# Altium footprint library Nutz.PcbLib: 67 footprints (part 2 of 5)
Each footprint in its own frame and in the unit in brackets; x right, y up, seen from the top. Pads: shape width x height; smd on the part's side, far side on the other; paste and mask are expansions set on the pad; w line width, h text height; cw(c..) or ccw(c..) is an arc to the next point about the centre after c.
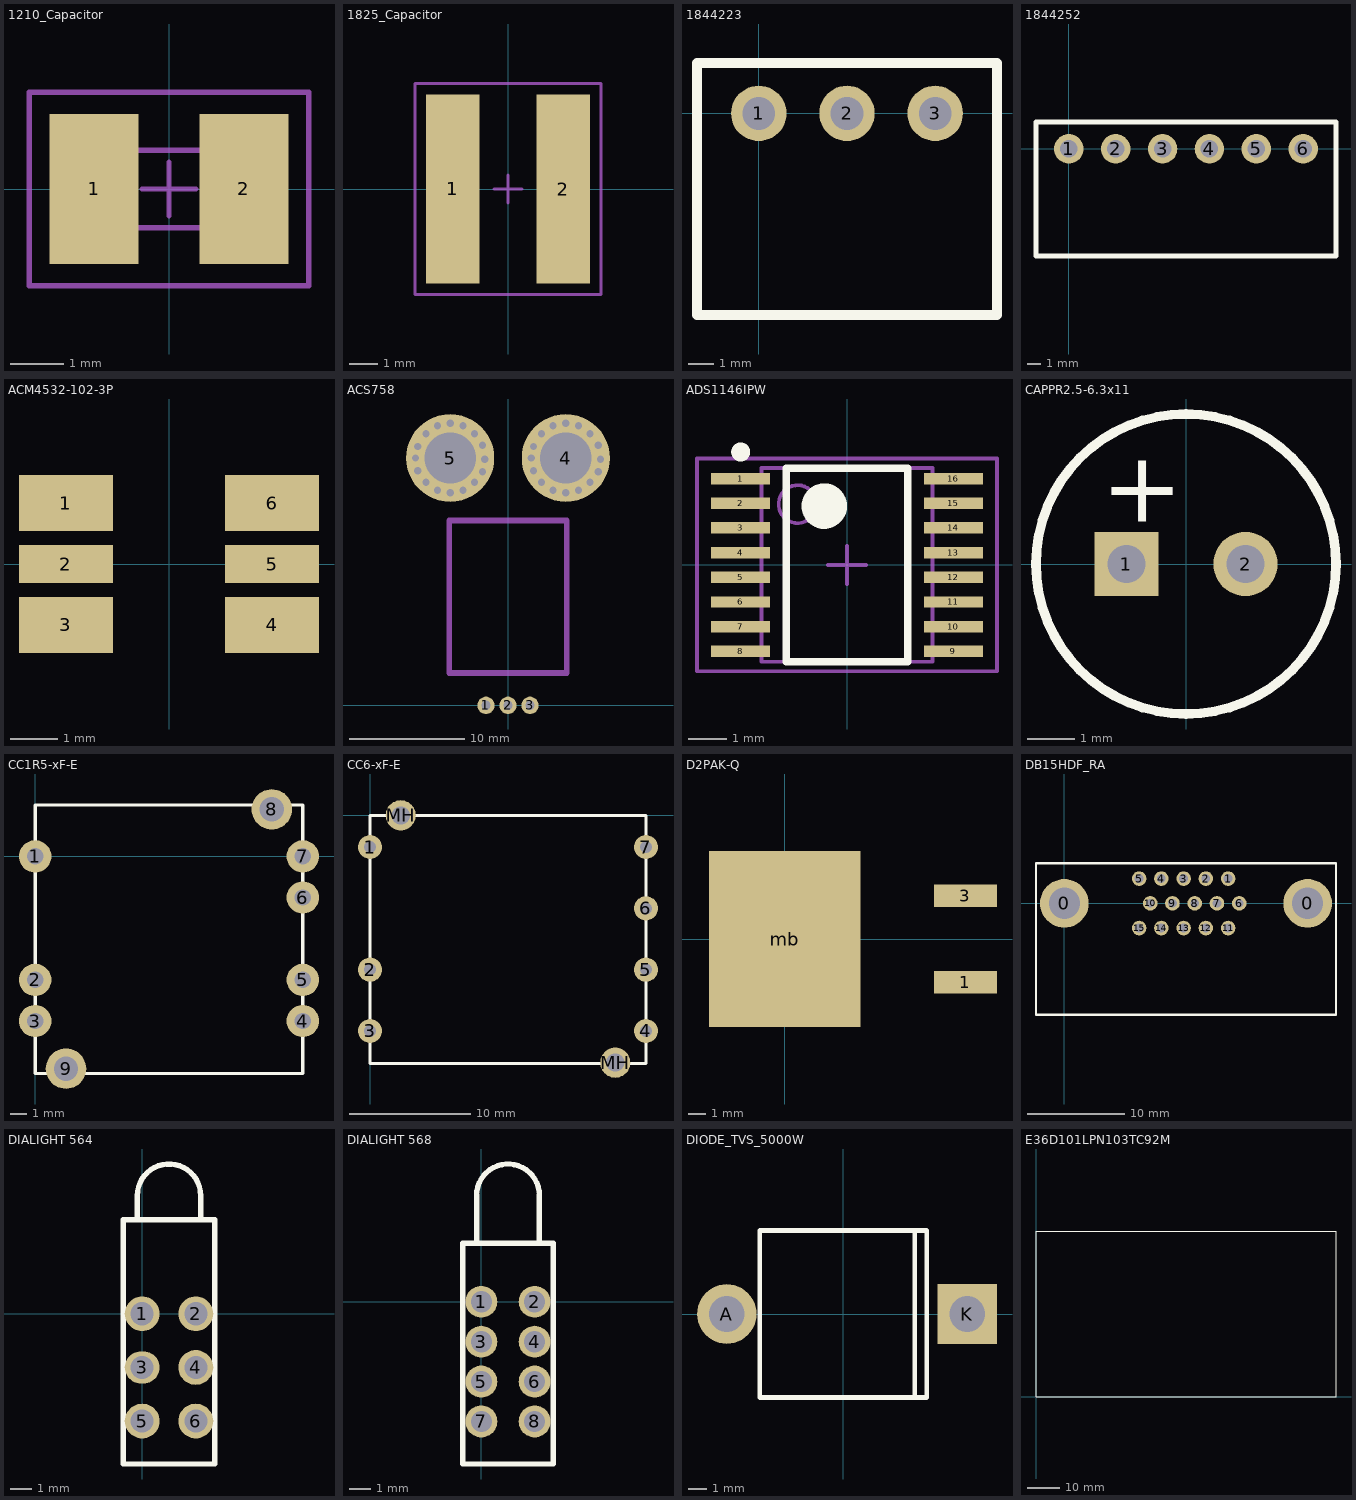
[diagram p1: the footprints below, top view; thin cyan lines are the x and y axes]

## 1210_Capacitor [mil] "1210 Capacitor"
height 43.31
pads (2):
  rect 65x110 smd: 1(-55,0) 2(55,0)
Mechanical 13:
  lines w3.94: -43.31,-28.54 -43.31,28.54 43.31,28.54 43.31,-28.54 -43.31,-28.54
Mechanical 15:
  lines w3.94: -19.68,0 19.69,0 ; 0,-19.68 0,19.69 ; -102.36,-70.87 -102.36,70.87 102.36,70.87 102.36,-70.87 -102.36,-70.87
3D body: height 36.4, standoff -1.39, extent -83.78,-54.39 81.57,51.9

## 1825_Capacitor [mil] "1825 Capacitor"
height 43.31
pads (2):
  rect 75x265 smd: 1(-77.5,0) 2(77.5,0)
Mechanical 15:
  lines w3.94: -19.68,0 19.69,0 ; 0,-19.68 0,19.69 ; -130,-147.5 -130,147.5 130,147.5 130,-147.5 -130,-147.5
3D body: height 49.21, standoff -0.39, extent -115.12,-132.37 114.88,132.63

## 1844223 [mm]
pads (3):
  round 2.2 hole 1.3: 1(0,0) 2(3.5,0) 3(7,0)
Top Overlay:
  lines w0.381: -2.45,-8 -2.45,2 9.45,2 9.45,-8 -2.45,-8

## 1844252 [mm]
pads (6):
  round 2.2 hole 1.3: 1(0,0) 2(3.5,0) 3(7,0) 4(10.5,0) 5(14,0) 6(17.5,0)
Top Overlay:
  lines w0.381: -2.45,-8 -2.45,2 19.95,2 19.95,-8 -2.45,-8
3D body: height 7.25, standoff -3.4, extent -2.437,-8.001 19.963,1.199

## ACM4532-102-3P [mm] "3 Line Common Mode Choke"
height 2.3
pads (6):
  rect 2x1.2 smd: 1(-2.2,1.3) 3(-2.2,-1.3) 4(2.2,-1.3) 6(2.2,1.3)
  rect 2x0.8 smd: 2(-2.2,0) 5(2.2,0)
3D body: height 2.3, standoff 0, extent -2.25,-1.6 2.25,1.6

## ACS758 [mm]
pads (5):
  round 1.5 hole 0.8: 1(-1.91,0) 2(0,0) 3(1.91,0)
  round 7.62 hole 4.445: 4(5,21.4) 5(-5,21.4)
via 8,21.3 diameter 1.27 hole 0.635
via 7.1,23.5 diameter 1.27 hole 0.635
via 2.9,23.5 diameter 1.27 hole 0.635
via 2.9,19.3 diameter 1.27 hole 0.635
via 7.1,19.3 diameter 1.27 hole 0.635
via 5,18.4 diameter 1.27 hole 0.635
via 2,21.4 diameter 1.27 hole 0.635
via 5,24.4 diameter 1.27 hole 0.635
via 3.9,24.2 diameter 1.27 hole 0.635
via 6.1,24.2 diameter 1.27 hole 0.635
via 7.8,22.5 diameter 1.27 hole 0.635
via 7.8,20.2 diameter 1.27 hole 0.635
via 6.1,18.6 diameter 1.27 hole 0.635
via 3.9,18.6 diameter 1.27 hole 0.635
via 2.2,20.3 diameter 1.27 hole 0.635
via 2.2,22.4 diameter 1.27 hole 0.635
via -7.8,22.4 diameter 1.27 hole 0.635
via -7.8,20.3 diameter 1.27 hole 0.635
via -6.1,18.6 diameter 1.27 hole 0.635
via -3.9,18.6 diameter 1.27 hole 0.635
via -2.2,20.2 diameter 1.27 hole 0.635
via -2.2,22.5 diameter 1.27 hole 0.635
via -3.9,24.2 diameter 1.27 hole 0.635
via -6.1,24.2 diameter 1.27 hole 0.635
via -5,24.4 diameter 1.27 hole 0.635
via -8,21.4 diameter 1.27 hole 0.635
via -5,18.4 diameter 1.27 hole 0.635
via -2.9,19.3 diameter 1.27 hole 0.635
via -7.1,19.3 diameter 1.27 hole 0.635
via -7.1,23.5 diameter 1.27 hole 0.635
via -2.9,23.5 diameter 1.27 hole 0.635
via -2,21.3 diameter 1.27 hole 0.635
Mechanical 13:
  lines w0.508: -5.08,2.794 5.08,2.794 5.08,16.002 -5.08,16.002 -5.08,2.794
3D body: height 7, standoff -3.51, extent -7,-0.5 7,22.322

## ADS1146IPW [mm] "TSOP, 16-Leads, Body 5.1x4.5mm (max), Pitch 0.65mm, IPC Medium Density"
height 1.2
pads (16):
  rect 1.55x0.3 smd: 1(-2.8,2.275) 2(-2.8,1.625) 3(-2.8,0.975) 4(-2.8,0.325) 5(-2.8,-0.325) 6(-2.8,-0.975) 7(-2.8,-1.625) 8(-2.8,-2.275) 9(2.8,-2.275) 10(2.8,-1.625) 11(2.8,-0.975) 12(2.8,-0.325) 13(2.8,0.325) 14(2.8,0.975) 15(2.8,1.625) 16(2.8,2.275)
Top Overlay:
  circle w0.25: c-2.8,2.975 r0.125
  circle w0.6: c-0.6,1.55 r0.3
  lines w0.2: -1.6,-2.55 -1.6,2.55 1.6,2.55 1.6,-2.55 -1.6,-2.55
Mechanical 13:
  circle w0.1: c-1.3,1.6 r0.5
  lines w0.1: -2.25,-2.55 -2.25,2.55 2.25,2.55 2.25,-2.55 -2.25,-2.55
Mechanical 15:
  lines w0.1: -0.5,0 0.5,0 ; 0,-0.5 0,0.5 ; -3.95,-2.8 -3.95,2.8 3.95,2.8 3.95,-2.8 -3.95,-2.8
3D body: height 1.2, standoff 0.1, extent -2.25,-2.55 2.25,2.55

## CAPPR2.5-6.3x11 [mm] "Capacitor, Electrolytic, Radial; Body 6.3 x 11 mm (Dia.xH typ); Pin Spacing 2.5 mm (typ)"
height 12
pads (2):
  rect 1.35x1.35 hole 0.8: 1(-1.25,0)
  round 1.35 hole 0.8: 2(1.25,0)
Top Overlay:
  circle w0.2: c0,0 r3.15
  text "+" at -1.778,0.889 h1.5
3D body: height 11.01, standoff -2.7, extent -3.15,-3.15 3.133,3.15

## CC1R5-xF-E [mm]
pads (9):
  round 2 hole 1: 1(0,0) 2(0,-7.62) 3(0,-10.16) 4(16.51,-10.16) 5(16.51,-7.62) 6(16.51,-2.54) 7(16.51,0)
  round 2.5 hole 1.5: 8(14.6,2.9) 9(1.9,-13.1)
Top Overlay:
  lines w0.2: 16.51,3.175 0,3.175 ; 0,3.175 16.5,3.175 16.5,-13.4 0,-13.4 0,3.175
3D body: height 8.5, standoff 0, extent 0,-13.4 16.51,3.2

## CC6-xF-E [mm] "6W Isolated DCDC Converter"
height 8.5
pads (9):
  round 2 hole 1: 1(0,-2.63) 2(0,-12.79) 3(0,-17.87) 4(22.86,-17.87) 5(22.86,-12.79) 6(22.86,-7.71) 7(22.86,-2.63)
  round 2.5 hole 1.5: MH(2.54,0) MH(20.32,-20.5)
Top Overlay:
  lines w0.254: 0,-20.574 22.86,-20.574 22.86,0 0,0 0,-20.574
3D body: height 8.5, standoff 0, extent 0,-20.574 22.86,0

## D2PAK-Q [mm]
pads (3):
  rect 3.7x1.3 smd: 1(10.6,-2.54) 3(10.6,2.54)
  rect 8.9x10.3 smd: mb(0,0)

## DB15HDF_RA [mm]
pads (17):
  round 5 hole 3.2: 0(0,0) 0(24.99,0)
  round 1.5 hole 0.9: 1(16.82,2.54) 2(14.535,2.54) 3(12.25,2.54) 4(9.965,2.54) 5(7.68,2.54) 6(17.962,0) 7(15.677,0) 8(13.392,0) 9(11.107,0) 10(8.822,0) 11(16.82,-2.54) 12(14.535,-2.54) 13(12.25,-2.54) 14(9.965,-2.54) 15(7.68,-2.54)
Top Overlay:
  lines w0.254: -2.91,-11.43 27.9,-11.43 27.9,4.1 -2.91,4.1 -2.91,-11.43
3D body: height 6.25, standoff -7.09, extent -18.448,-20.23 12.352,-6.76

## DIALIGHT 564 [mil]
pads (6):
  round 65 hole 43: 1(0,0) 2(100,0) 4(100,-100) 5(0,-200) 6(100,-200)
  oval 65x60 hole 43: 3(0,-100)
Top Overlay:
  lines w10: -9.06,175 -9.06,220 cw(c50,220) 109.06,220 109.06,175 ; -35,-280 135,-280 135,175 -35,175 -35,-280
3D body: height 600, standoff 0, extent -35,-280 135,175

## DIALIGHT 568 [mil]
pads (8):
  round 60 hole 40: 1(0,0) 2(100,0) 3(0,-75) 4(100,-75) 5(0,-150) 6(100,-150) 7(0,-225) 8(100,-225)
Top Overlay:
  lines w10: -9.06,110.94 -9.06,200 cw(c50,200) 109.06,200 109.06,110.94 ; -35,-305 -35,110 135,110 135,-305 -35,-305
3D body: height 800, standoff 0, extent -35,-305 135,110

## DIODE_TVS_5000W [mm]
height 9.144
pads (2):
  round 3.175 hole 1.905: A(-6.2,0)
  rect 3.175x3.175 hole 1.905: K(6.6,0)
Top Overlay:
  lines w0.254: 3.81,-4.445 3.81,0 3.81,4.445 ; -4.445,-4.445 -4.445,0 -4.445,4.445 4.445,4.445 4.445,0 4.445,-4.445 -4.445,-4.445
3D body: height 8.54, standoff -3.55, extent -6.7,-4 7.2,4.2

## E36D101LPN103TC92M [mm]
Top Overlay:
  lines w0.381: 0,0 0,50.8 92.08,50.8 92.08,0 0,0